# Altium schematic symbol library B3F-4050.SchLib: 1 symbol
Pins are listed as number, name and electrical type; pins without a type are passive.

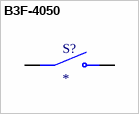
[diagram p0: symbol B3F-4050]

## B3F-4050
designator S?
Tactile Switch SPST-NO Top Actuated Through Hole; MP: B3F-4050; MF: Omron Electronics; SnapEDA_Link: https://www.snapeda.com/parts/B3F-4050/Omron%20Electronics%20Inc-EMC%20Div/view-part/274265/?ref=snap; Price: None; Package: None; Availability: Unavailable; Value: *
footprint SW_B3F-4050
pins: 1 COM, 2 COM, 3 NO, 4 NO